# Altium schematic symbol library RC0603JR-13330RL.SchLib: 1 symbol
Pins are listed as number, name and electrical type; pins without a type are passive.

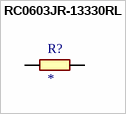
[diagram p0: symbol RC0603JR-13330RL]

## RC0603JR-13330RL
designator R?
https://octopart.com/rc0603fr-13100kl-yageo-12819546; MP: RC0603JR-13330RL; MF: {'manufacturer': u'Yageo'}; Price: None; Package: None; Value: *; Availability: Unavailable
footprint 0603
pins: 1, 2